# EAGLE library part ISO7816 (library smartwed)
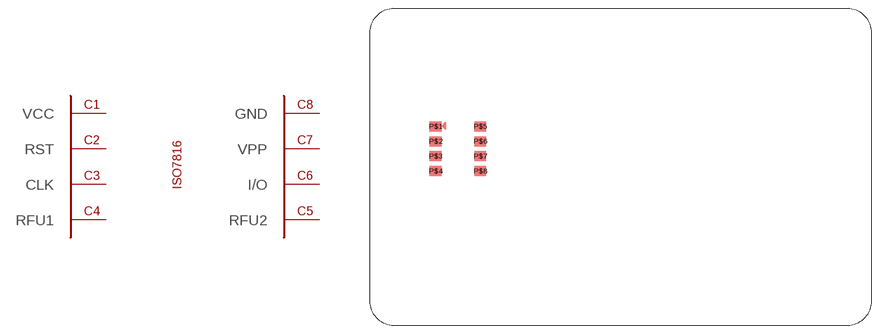
[diagram p1: symbol with the pads of ISO7816; footprint ISO7816]

Designator prefix -

## ISO7816  [ISO7816]
P$1  VCC  sup
P$2  RST  in
P$3  CLK  in
P$4  RFU1
P$5  GND  sup
P$6  VPP
P$7  I/O
P$8  RFU2

## Footprint ISO7816 (pad centres in mm)
smd 2 x 1.7: P$1 -31.55,6.91; P$2 -31.55,4.37; P$3 -31.55,1.83; P$4 -31.55,-0.71; P$5 -23.93,6.91; P$6 -23.93,4.37; P$7 -23.93,1.83; P$8 -23.93,-0.71